# EAGLE library part JP6E (library BeaverBoard)
JUMPER
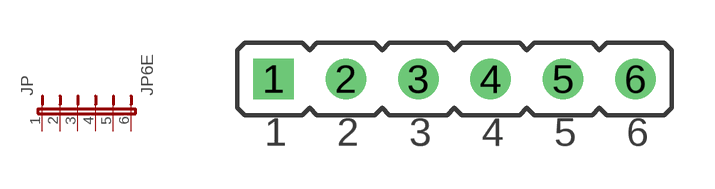
[diagram p7: symbol with the pads of JP6; footprint JP6]

Designator prefix JP

## JP6E  [JP6]
1  1  pas
2  2  pas
3  3  pas
4  4  pas
5  5  pas
6  6  pas

## Footprint JP6 (pad centres in mm)
JUMPER
drill 0.914 square: 1 0,0
drill 0.914 round: 2 2.54,0; 3 5.08,0; 4 7.62,0; 5 10.16,0; 6 12.7,0